# EAGLE library part AK300/6 (library con-ptr500-modified)
CONNECTOR
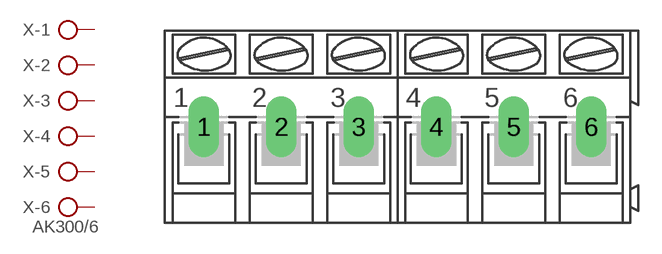
[diagram p0: symbol with the pads of AK300/6; footprint AK300/6]

Designator prefix X; gates -1=KL -2=KL -3=KL -4=KL -5=KL -6=KLV

## AK300/6 (OC_FARNELL: unknown; OC_NEWARK: unknown)  [AK300/6]
1  -1:KL  pas
2  -2:KL  pas
3  -3:KL  pas
4  -4:KL  pas
5  -5:KL  pas
6  -6:KL  pas

## Footprint AK300/6 (pad centres in mm)
CONNECTOR
drill 1.321 long: 1 -12.522,0; 2 -7.518,0; 3 -2.515,0; 4 2.515,0; 5 7.518,0; 6 12.522,0